# Altium footprint library transform.PcbLib: 46 footprints (part 2 of 3)
Each footprint in its own frame and in the unit in brackets; x right, y up, seen from the top. Pads: shape width x height; smd on the part's side, far side on the other; paste and mask are expansions set on the pad; w line width, h text height; cw(c..) or ccw(c..) is an arc to the next point about the centre after c.
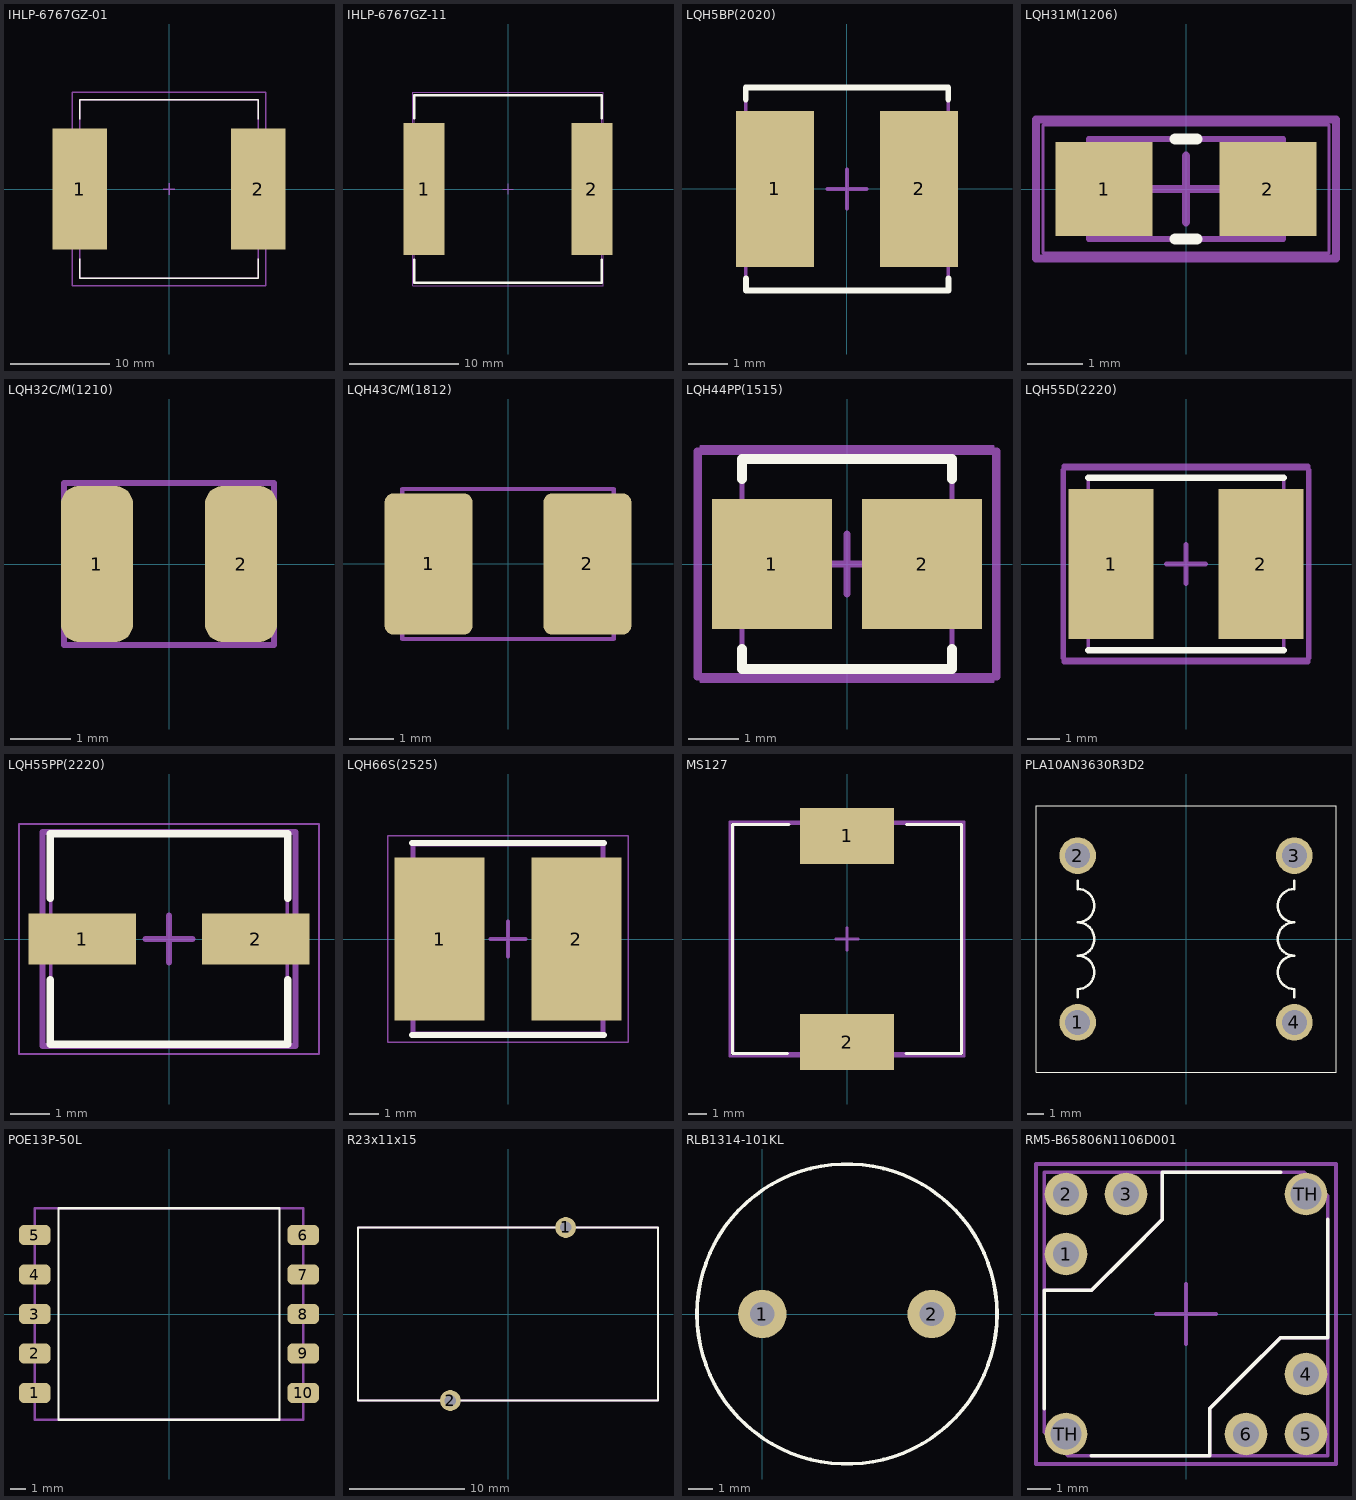
[diagram p1: the footprints below, top view; thin cyan lines are the x and y axes]

## IHLP-6767GZ-01 [mm]
height 7
pads (2):
  rect 5.5x12.2 smd: 1(-9,0) 2(9,0)
Top Overlay:
  lines w0.15: -9,-7 -9,-9 9,-9 9,-7 ; -9,7 -9,9 9,9 9,7
Top Solder:
  rectangle: 9.25,-6.25 11.75,-3.5
  rectangle: 9.25,-3 11.75,-0.25
  rectangle: 9.25,0.25 11.75,3
  rectangle: 9.25,3.5 11.75,6.25
  rectangle: 6.25,-6.25 8.75,-3.5
  rectangle: 6.25,-3 8.75,-0.25
  rectangle: 6.25,0.25 8.75,3
  rectangle: 6.25,3.5 8.75,6.25
  rectangle: -8.75,-6.25 -6.25,-3.5
  rectangle: -8.75,-3 -6.25,-0.25
  rectangle: -8.75,0.25 -6.25,3
  rectangle: -8.75,3.5 -6.25,6.25
  rectangle: -11.75,3.5 -9.25,6.25
  rectangle: -11.75,0.25 -9.25,3
  rectangle: -11.75,-3 -9.25,-0.25
  rectangle: -11.75,-6.25 -9.25,-3.5
Mechanical 15:
  lines w0.15: -0.6,0 0,0 ; 0,-0.6 0,0 ; 0,0.6 0,0 ; 0.6,0 0,0 ; -9.75,-9.75 9.75,-9.75 9.75,9.75 -9.75,9.75 -9.75,-9.75
Mechanical 29:
  lines w0.15: -9,-9 9,-9 9,9 -9,9 -9,-9
3D body: height 7, standoff 0.1, extent -9,-9 9,9

## IHLP-6767GZ-11 [mm] "Precision Wire Wound Inductor, 2-Leads, Body 17,15x17,15mm, IPC Medium Density"
height 7
pads (2):
  rect 3.8x12.1 smd: 1(-7.7,0) 2(7.7,0)
Top Overlay:
  lines w0.2: -8.6,-6.45 -8.6,-8.6 8.6,-8.6 8.6,-6.45 ; -8.6,6.45 -8.6,8.6 8.6,8.6 8.6,6.45
Top Courtyard:
  lines w0.05: -8.75,-8.85 8.75,-8.85 8.75,8.85 -8.75,8.85 -8.75,-8.85
  lines w0.1: -0.5,0 0.5,0 ; 0,-0.5 0,0.5
Mechanical 13:
  lines w0.1: -8.575,-8.575 8.575,-8.575 8.575,8.575 -8.575,8.575 -8.575,-8.575
3D body: height 7, standoff 0, extent -8.575,-8.575 8.575,8.575

## LQH5BP(2020) [mm] "LQH5BP Series 2020 Case"
height 2.2
pads (2):
  rect 2x4 smd: 1(-1.85,0) 2(1.85,0)
Top Overlay:
  lines w0.15: -2.6,2.3 -2.6,2.6 2.6,2.6 2.6,2.3 ; -2.594,-2.302 -2.594,-2.602 2.606,-2.602 2.606,-2.302
Top Courtyard:
  lines w0.1: -2.6,-2.6 -2.6,2.6 2.6,2.6 2.6,-2.6 -2.6,-2.6
Top 3D Body:
  lines w0.1: -0.5,0 0.5,0 ; 0,-0.5 0,0.5
3D body: height 2.2, standoff 0, extent -2.6,-2.6 2.6,2.6

## LQH31M(1206) [mm] "LQH31M Series 1206 Case"
height 2
pads (2):
  rect 1.75x1.7 smd: 1(-1.475,0) 2(1.475,0)
Top Overlay:
  lines w0.2: -0.2,-0.9 0.2,-0.9 ; -0.2,0.9 0.2,0.9
Top Courtyard:
  lines w0.1: -1.75,-0.9 1.75,-0.9 1.75,0.9 -1.75,0.9 -1.75,-0.9
Top 3D Body:
  lines w0.05: -2.575,-1.15 2.575,-1.15 2.575,1.15 -2.575,1.15 -2.575,-1.15
  lines w0.1: -0.5,0 0.5,0 ; 0,-0.5 0,0.5
Mechanical 15:
  lines w0.15: -0.6,0 0,0 ; 0,-0.6 0,0 ; 0,0.6 0,0 ; 0.6,0 0,0 ; -2.7,-1.25 -2.7,1.25 2.7,1.25 2.7,-1.25 -2.7,-1.25
3D body: height 2, standoff 0, extent -1.75,-0.9 1.75,0.9

## LQH32C/M(1210) [mm] "LQH32C/M Series 1210 Case"
height 2.2
pads (2):
  rrect50% 1.2x2.6 smd: 1(-1.2,0) 2(1.2,0)
Top Courtyard:
  lines w0.1: -1.75,-1.35 -1.75,1.35 1.75,1.35 1.75,-1.35 -1.75,-1.35
3D body "User Library-LQH32PN_sw.STEP": height 1.55, standoff 0, extent -1.6,-1.25 1.6,1.25

## LQH43C/M(1812) [mm] "LQH43C/M Series 1812 Case"
height 2.8
pads (2):
  rrect20% 2x3.2 smd: 1(-1.8,0) 2(1.8,0)
Top Courtyard:
  lines w0.1: -2.4,-1.7 -2.4,1.7 2.4,1.7 2.4,-1.7 -2.4,-1.7
3D body: height 1.8, standoff 0.8, extent -1.6,-1.4 1.6,1.4
3D body: height 2.6, standoff 1.8, extent -1.8,-1.6 1.8,1.6
3D body: height 0.8, standoff 0, extent -2.3,-1.6 2.3,1.6

## LQH44PP(1515) [mm] "LQH44PP Series 1515 Case"
height 1.7
pads (2):
  rect 2.4x2.6 smd: 1(-1.5,0) 2(1.5,0)
Top Overlay:
  lines w0.2: -2.1,-1.7 -2.1,-2.1 2.1,-2.1 2.1,-1.7 ; -2.1,1.7 -2.1,2.1 2.1,2.1 2.1,1.7
Top Courtyard:
  lines w0.1: -2.1,-2.1 2.1,-2.1 2.1,2.1 -2.1,2.1 -2.1,-2.1
Top 3D Body:
  lines w0.05: -2.925,-2.35 2.925,-2.35 2.925,2.35 -2.925,2.35 -2.925,-2.35
  lines w0.1: -0.5,0 0.5,0 ; 0,-0.5 0,0.5
Mechanical 15:
  lines w0.15: -0.6,0 0,0 ; 0,-0.6 0,0 ; 0,0.6 0,0 ; 0.6,0 0,0 ; -3,-2.25 3,-2.25 3,2.25 -3,2.25 -3,-2.25
3D body: height 1.7, standoff 0, extent -2.1,-2.1 2.1,2.1

## LQH55D(2220) [mm] "LQH55D Series 2220"
height 5
pads (2):
  rect 2.6x4.6 smd: 1(-2.3,0) 2(2.3,0)
Top Overlay:
  lines w0.2: -3,-2.65 3,-2.65 ; -3,2.65 3,2.65
Top Courtyard:
  lines w0.1: -3,-2.65 -3,2.65 3,2.65 3,-2.65 -3,-2.65
Top 3D Body:
  lines w0.05: -3.825,-2.9 -3.825,2.9 3.825,2.9 3.825,-2.9 -3.825,-2.9
  lines w0.1: -0.5,0 0.5,0 ; 0,-0.5 0,0.5
Mechanical 15:
  lines w0.15: -0.6,0 0,0 ; 0,-0.6 0,0 ; 0,0.6 0,0 ; 0.6,0 0,0 ; -3.75,-3 3.75,-3 3.75,3 -3.75,3 -3.75,-3
3D body: height 5, standoff 0, extent -3,-2.65 3,2.65

## LQH55PP(2220) [mm] "LQH55PP Series 2220 Case"
height 2
pads (2):
  rect 2.75x1.3 smd: 1(-2.225,0) 2(2.225,0)
Top Overlay:
  lines w0.2: -3.05,-1.05 -3.05,-2.7 3.05,-2.7 3.05,-1.05 ; -3.05,1.05 -3.05,2.7 3.05,2.7 3.05,1.05
Top Courtyard:
  lines w0.1: -3.035,-2.7 3.035,-2.7 3.035,2.7 -3.035,2.7 -3.035,-2.7
Top 3D Body:
  lines w0.05: -3.85,-2.95 3.85,-2.95 3.85,2.95 -3.85,2.95 -3.85,-2.95
  lines w0.1: -0.5,0 0.5,0 ; 0,-0.5 0,0.5
Mechanical 15:
  lines w0.15: -0.6,0 0,0 ; 0,-0.6 0,0 ; 0,0.6 0,0 ; 0.6,0 0,0 ; -3.25,-2.75 3.25,-2.75 3.25,2.75 -3.25,2.75 -3.25,-2.75
3D body: height 2, standoff 0, extent -3.035,-2.7 3.035,2.7

## LQH66S(2525) [mm] "LQH66S Series 2525 Case"
height 5
pads (2):
  rect 3.1x5.6 smd: 1(-2.35,0) 2(2.35,0)
Top Overlay:
  lines w0.2: -3.3,-3.3 3.3,-3.3 ; -3.3,3.3 3.3,3.3
Top Courtyard:
  lines w0.1: -3.3,-3.3 3.3,-3.3 3.3,3.3 -3.3,3.3 -3.3,-3.3
Top 3D Body:
  lines w0.05: -4.125,-3.55 4.125,-3.55 4.125,3.55 -4.125,3.55 -4.125,-3.55
  lines w0.1: -0.5,0 0.5,0 ; 0,-0.5 0,0.5
Mechanical 15:
  lines w0.15: -0.6,0 0,0 ; 0,-0.6 0,0 ; 0,0.6 0,0 ; 0.6,0 0,0 ; -3.25,-3.25 3.25,-3.25 3.25,3.25 -3.25,3.25 -3.25,-3.25
3D body: height 5, standoff 0, extent -3.3,-3.3 3.3,3.3

## MS127 [mm]
height 7
pads (2):
  rect 5x3 smd: 1(0,5.5) 2(0,-5.5)
Top Overlay:
  lines w0.15: -3.175,-6.1 -6.1,-6.1 -6.1,6.1 -3.1,6.1 ; 3.15,-6.1 6.1,-6.1 6.1,6.1 3.175,6.1
Mechanical 15:
  lines w0.15: -0.6,0 0,0 ; 0,-0.6 0,0 ; 0,0.6 0,0 ; 0.6,0 0,0 ; -6.25,-6.25 -6.25,6.25 6.25,6.25 6.25,-6.25 -6.25,-6.25
Mechanical 29:
  lines w0.15: -6.075,-6.1 -6.075,6.15 6.1,6.15 6.1,-6.1 -6.075,-6.1
3D body "User Library-Inductor SRR1280 Series.STEP": height 7.51, standoff 0, extent -6.1,-6.2 6.1,6

## PLA10AN3630R3D2 [mm]
pads (4):
  round 2.2 hole 1.5 unplated: 1(-6.5,-5) 2(-6.5,5) 3(6.5,5) 4(6.5,-5)
Top Overlay:
  lines w0: -9,-8 9,-8 9,8 -9,8 -9,-8
  lines w0.15: -6.5,-3.5 -6.5,-3 ccw(c-6.5,-2) -6.5,-1 ccw(c-6.5,0) -6.5,1 ccw(c-6.5,2) -6.5,3 -6.5,3.5 ; 6.5,-3.5 6.5,-3 cw(c6.5,-2) 6.5,-1 cw(c6.5,0) 6.5,1 cw(c6.5,2) 6.5,3 6.5,3.5
3D body: height 13, standoff 0, extent -8.5,-8 8.5,8
3D body: height 17.5, standoff 5, extent -9,-2.5 9,2.5

## POE13P-50L [mm]
height 12.7
pads (10):
  rrect50% 2x1.27 smd: 1(-8.5,-5) 2(-8.5,-2.5) 3(-8.5,0) 4(-8.5,2.5) 5(-8.5,5) 6(8.5,5) 7(8.5,2.5) 8(8.5,0) 9(8.5,-2.5) 10(8.5,-5)
Top Overlay:
  lines w0.15: -7,-6.7 7,-6.7 7,6.7 -7,6.7 -7,-6.7
Top Courtyard:
  lines w0.15: -8.5,-6.7 -8.5,6.7 8.5,6.7 8.5,-6.7 -8.5,-6.7
3D body "Coilcraft-POE13P-50L.STEP": height 12.75, standoff 0.05, extent -8.5,-6.73 8.5,6.73

## R23x11x15 [mm]
height 26
pads (2):
  round 1.8 hole 1 unplated: 1(5,7.5) 2(-5,-7.5)
Top Overlay:
  lines w0.15: -13,-7.5 13,-7.5 13,7.5 -13,7.5 -13,-7.5
Mechanical 29:
  lines w0.15: -13,-7.5 -13,7.5 13,7.5 13,-7.5 -13,-7.5

## RLB1314-101KL [mm]
pads (2):
  round 2 hole 1 unplated: 1(0,0) 2(7,0)
Top Overlay:
  circle w0.15: c3.5,0 r6.2
3D body: height 3, standoff 0, extent -2.5,-6 9.5,6
3D body: height 12, standoff 9, extent -2.5,-6 9.5,6
3D body: height 9, standoff 3, extent -1,-4.5 8,4.5

## RM5-B65806N1106D001 [mm]
height 12
pads (8):
  round 1.8 hole 1.1: 1(-5.08,2.54) 2(-5.08,5.08) 3(-2.54,5.08) 4(5.08,-2.54) 5(5.08,-5.08) 6(2.54,-5.08)
  round 1.8 hole 1.3: TH(-5.08,-5.08) TH(5.08,5.08)
Top Overlay:
  lines w0.15: -6,-4 -6,1 -4,1 -2.5,2.5 -1,4 -1,6 4,6 ; -4,-6 1,-6 1,-4 2.5,-2.5 4,-1 6,-1 6,4
Mechanical 15:
  lines w0.15: -1.27,0 1.27,0 ; 0,-1.27 0,1.27 ; -6.35,-6.35 6.35,-6.35 6.35,6.35 -6.35,6.35 -6.35,-6.35
Mechanical 29:
  lines w0.15: -6,1 -4,1 -1,4 -1,6 ; -6,1 -6,-5 -5,-6 1,-6 ; -6,1 -6,6 -1,6 ; -1,6 5,6 6,5 6,-1 ; 1,-6 1,-4 4,-1 6,-1 ; 1,-6 6,-6 6,-1
3D body: height 3, standoff -3, extent -5.58,4.58 -4.58,5.58
3D body: height 3, standoff -3, extent -5.58,2.04 -4.58,3.04
3D body: height 3, standoff -3, extent -3.04,4.58 -2.04,5.58
3D body: height 3, standoff -3, extent 4.58,-3.04 5.58,-2.04
3D body: height 3, standoff -3, extent 4.58,-5.58 5.58,-4.58
3D body: height 3, standoff -3, extent 2.04,-5.58 3.04,-4.58
3D body: height 12, standoff 0.5, extent -6,-6 6,6
3D body: height 2, standoff 1.5, extent -6,-6 6,6